# Altium schematic symbol library parts.SchLib: 8 symbols
Pins are listed as number, name and electrical type; pins without a type are passive.

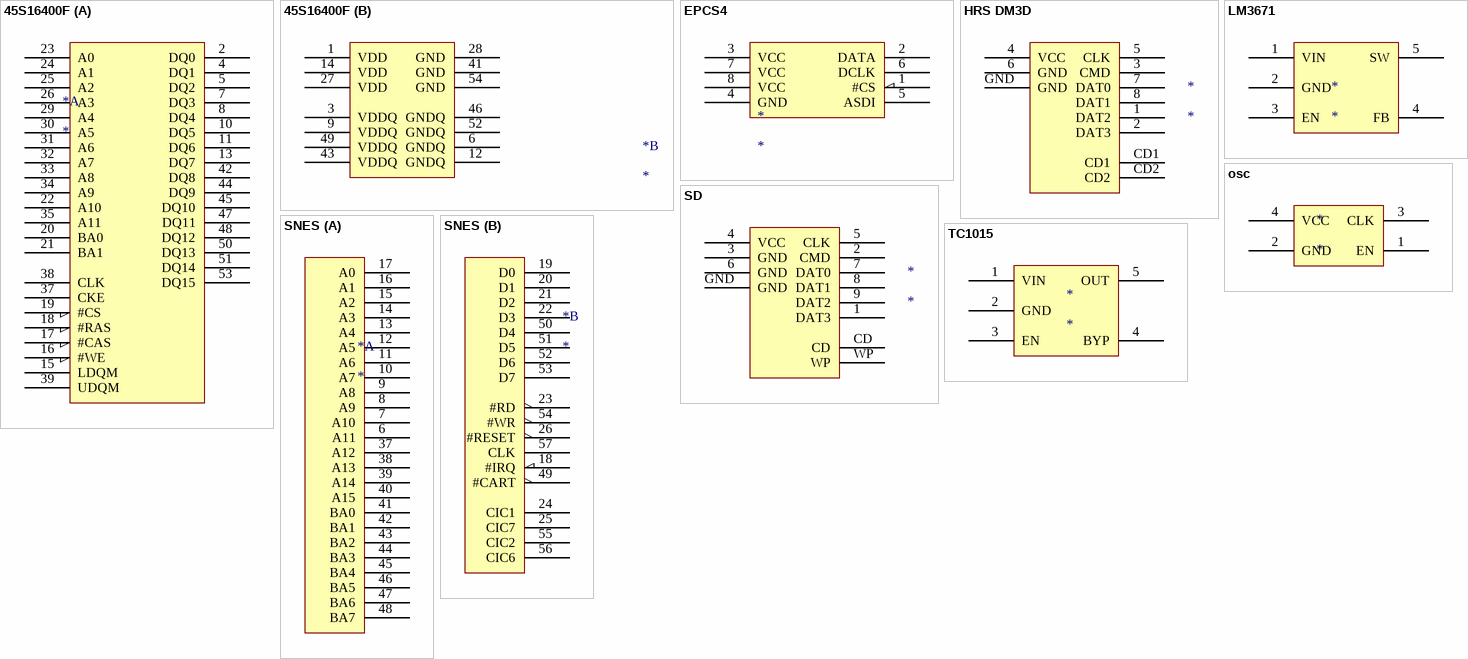
[diagram p0: symbols 45S16400F to TC1015]

## 45S16400F
designator *
footprint TSOP2-54_N (54-Pin Plastic Small Outline Package 0.8 mm Pitch, IPC Medium Density)
part A pins: 2 DQ0, 4 DQ1, 5 DQ2, 7 DQ3, 8 DQ4, 10 DQ5, 11 DQ6, 13 DQ7, 15 LDQM, 16 #WE, 17 #CAS, 18 #RAS, 19 #CS, 20 BA0, 21 BA1, 22 A10, 23 A0, 24 A1, 25 A2, 26 A3, 29 A4, 30 A5, 31 A6, 32 A7, 33 A8, 34 A9, 35 A11, 37 CKE, 38 CLK, 39 UDQM, 42 DQ8, 44 DQ9, 45 DQ10, 47 DQ11, 48 DQ12, 50 DQ13, 51 DQ14, 53 DQ15
part B pins: 1 VDD, 3 VDDQ, 6 GNDQ, 9 VDDQ, 12 GNDQ, 14 VDD, 27 VDD, 28 GND, 41 GND, 43 VDDQ, 46 GNDQ, 49 VDDQ, 52 GNDQ, 54 GND

## EPCS4
designator *
footprint SOIC127P600X175-8AN (SOIC, 8-Leads, Body 4.9x3.9mm, Pitch 1.27mm, IPC Medium Density)
pins: 1 #CS, 2 DATA, 3 VCC, 4 GND, 5 ASDI, 6 DCLK, 7 VCC, 8 VCC

## HRS DM3D
designator *
footprint HRS DM3D
pins: 1 DAT2, 2 DAT3, 3 CMD, 4 VCC, 5 CLK, 6 GND, 7 DAT0, 8 DAT1, CD1, CD2, GND

## LM3671
designator *
footprint SOT23-5
pins: 1 VIN, 2 GND, 3 EN, 4 FB, 5 SW

## osc
designator *
footprint KC3225A
pins: 1 EN, 2 GND, 3 CLK, 4 VCC

## SD
designator *
footprint 3MSD
pins: 1 DAT3, 2 CMD, 3 GND, 4 VCC, 5 CLK, 6 GND, 7 DAT0, 8 DAT1, 9 DAT2, CD, GND, WP

## SNES
designator *
footprint SNES
part A pins: 6 A11, 7 A10, 8 A9, 9 A8, 10 A7, 11 A6, 12 A5, 13 A4, 14 A3, 15 A2, 16 A1, 17 A0, 37 A12, 38 A13, 39 A14, 40 A15, 41 BA0, 42 BA1, 43 BA2, 44 BA3, 45 BA4, 46 BA5, 47 BA6, 48 BA7
part B pins: 18 #IRQ, 19 D0, 20 D1, 21 D2, 22 D3, 23 #RD, 24 CIC1, 25 CIC7, 26 #RESET, 49 #CART, 50 D4, 51 D5, 52 D6, 53 D7, 54 #WR, 55 CIC2, 56 CIC6, 57 CLK

## TC1015
designator *
footprint SOT23-5
pins: 1 VIN, 2 GND, 3 EN, 4 BYP, 5 OUT